# EAGLE library part PINHD-1X11 (library HelaTronix - Connectors)
PIN HEADER
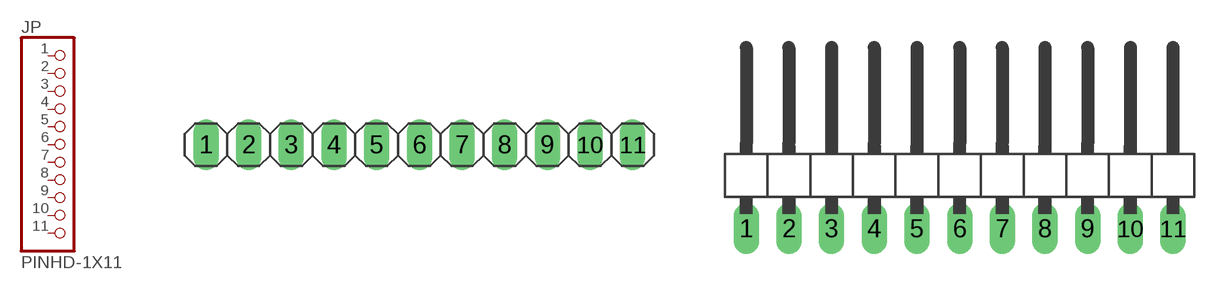
[diagram p1: symbol with the pads of 1X11; footprints 1X11, 1X11/90]

Designator prefix JP

## PINHD-1X11  [1X11]
1  1  pas
2  2  pas
3  3  pas
4  4  pas
5  5  pas
6  6  pas
7  7  pas
8  8  pas
9  9  pas
10  10  pas
11  11  pas

## PINHD-1X11/90  [1X11/90]
Pads as for 1X11

## PINHD-1X11/WJ15EDGVC  [WJ15EDGVC-3.81-11P]
Pads as for 1X11

## Footprint 1X11 (pad centres in mm)
PIN HEADER
drill 1.016 long: 1 -12.7,0; 2 -10.16,0; 3 -7.62,0; 4 -5.08,0; 5 -2.54,0; 6 0,0; 7 2.54,0; 8 5.08,0; 9 7.62,0; 10 10.16,0; 11 12.7,0

## Footprint 1X11/90 (pad centres in mm)
PIN HEADER
drill 1.016 long: 1 -12.7,-3.81; 2 -10.16,-3.81; 3 -7.62,-3.81; 4 -5.08,-3.81; 5 -2.54,-3.81; 6 0,-3.81; 7 2.54,-3.81; 8 5.08,-3.81; 9 7.62,-3.81; 10 10.16,-3.81; 11 12.7,-3.81

## Footprint WJ15EDGVC-3.81-11P (pad centres in mm)
drill 1.2 long: 1 -19.05,0; 2 -15.24,0; 3 -11.43,0; 4 -7.62,0; 5 -3.81,0; 6 0,0; 7 3.81,0; 8 7.62,0; 9 11.43,0; 10 15.24,0; 11 19.05,0